# Altium schematic symbol library QC.SchLib: 6 symbols
Pins are listed as number, name and electrical type; pins without a type are passive.

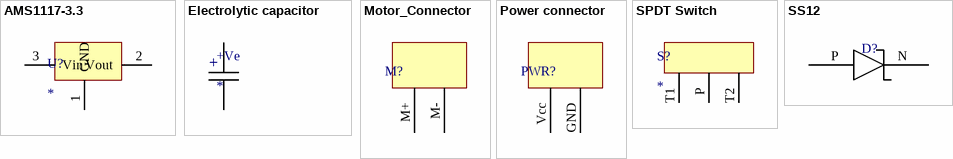
[diagram p0: symbols AMS1117-3.3 to SS12]

## AMS1117-3.3
designator U?
footprint AMS1117-3.3 (1A LOW DROPOUT VOLTAGE REGULATOR)
pins: 1 GND, 2 Vout, 3 Vin

## Electrolytic capacitor
designator +Ve
footprint 10uF Electrolytic Capacitor (Aluminum Electrolytic Capacitor, Body 4.30x4.30x5.40mm, IPC Low Density)
pins: +ve +Ve, -Ve
text: +

## Motor_Connector
designator M?  (value not drawn)
footprint Motor_Connector (Quadcopter motor connector)
pins: M+, M-

## Power connector
designator PWR?  (value not drawn)
footprint Power Connector (connector)
pins: GND 2, Vcc 1

## SPDT Switch
designator S?
footprint SPDT switch (switch)
pins: P, T1, T2

## SS12
designator D?, comment Surface Mount Schottky Barrier Rectifier  (value not drawn)
footprint SS12 (Surface Mount Schottky Barrier Rectifier)
pins: N, P